# Altium schematic symbol library CUI-DS05-127-SMT-Series.SchLib: 1 symbol
Pins are listed as number, name and electrical type; pins without a type are passive.

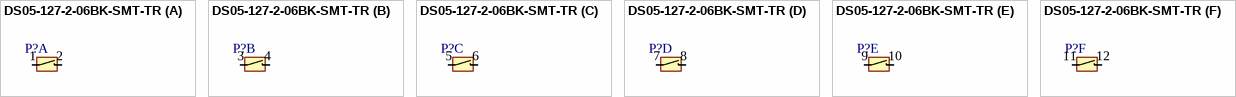
[diagram p0: symbol DS05-127-2-06BK-SMT-TR]

## DS05-127-2-06BK-SMT-TR
designator P?  (value not drawn)
Dip Switch SPST 6 Position Surface Mount Slide (Standard) Actuator 25mA 24VDC; Type: DS05-127-2-06BK-SMT-TR
footprint CUI-DS05-127-2-06BK-SMT_C (Dip Switch SPST 6 Position Surface Mount Slide (Standard) Actuator 25mA 24VDC)
part A pins: 1, 2
part B pins: 3, 4
part C pins: 5, 6
part D pins: 7, 8
part E pins: 9, 10
part F pins: 11, 12